# Altium footprint library ADP1755A.PcbLib: 1 footprints
Each footprint in its own frame and in the unit in brackets; x right, y up, seen from the top. Pads: shape width x height; smd on the part's side, far side on the other; paste and mask are expansions set on the pad; w line width, h text height; cw(c..) or ccw(c..) is an arc to the next point about the centre after c.
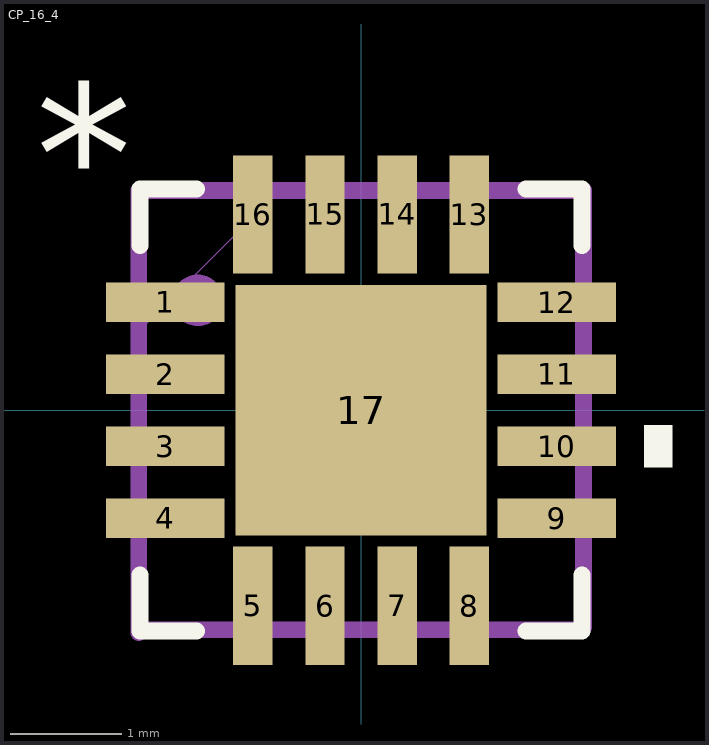
[diagram p0: the footprint, top view; thin cyan lines are the x and y axes]

## CP_16_4 [mil]
pads (17):
  rect 42x14 smd mask+4: 1(-69.5,38.39) 2(-69.5,12.8) 3(-69.5,-12.8) 4(-69.5,-38.39) 9(69.5,-38.39) 10(69.5,-12.8) 11(69.5,12.8) 12(69.5,38.39)
  rect 14x42 smd mask+4: 5(-38.39,-69.5) 6(-12.8,-69.5) 7(12.8,-69.5) 8(38.39,-69.5) 13(38.39,69.5) 14(12.8,69.5) 15(-12.8,69.5) 16(-38.39,69.5)
  rect 89x89 smd mask-44: 17(0,0)
Top Overlay:
  region: 100.5,-5.3 110.5,-5.3 110.5,-20.3 100.5,-20.3
  lines w6: -78.5,-58.49 -78.5,-78.5 -58.49,-78.5 ; -78.5,58.49 -78.5,78.5 -58.49,78.5 ; 58.49,-78.5 78.5,-78.5 78.5,-58.49 ; 58.49,78.5 78.5,78.5 78.5,58.49
  text "*" at -115.5,66.18 h50
Mechanical 1:
  lines w0: -78.5,28.5 -28.5,78.5 ; -78.5,-78.5 78.5,-78.5 78.5,78.5 -78.5,78.5 -78.5,-78.5 ; -78.5,-45.39 -78.5,-31.39 -78.5,-45.39 ; -78.5,-19.8 -78.5,-5.8 -78.5,-19.8 ; -78.5,5.8 -78.5,19.8 -78.5,5.8 ; -78.5,31.39 -78.5,45.39 -78.5,31.39 ; -45.39,-78.5 -31.39,-78.5 -45.39,-78.5 ; -45.39,78.5 -31.39,78.5 -45.39,78.5 ; -19.8,-78.5 -5.8,-78.5 -19.8,-78.5 ; -19.8,78.5 -5.8,78.5 -19.8,78.5 ; 5.8,-78.5 19.8,-78.5 5.8,-78.5 ; 5.8,78.5 19.8,78.5 5.8,78.5 ; 31.39,-78.5 45.39,-78.5 31.39,-78.5 ; 31.39,78.5 45.39,78.5 31.39,78.5 ; 78.5,-45.39 78.5,-31.39 78.5,-45.39 ; 78.5,-19.8 78.5,-5.8 78.5,-19.8 ; 78.5,5.8 78.5,19.8 78.5,5.8 ; 78.5,31.39 78.5,45.39 78.5,31.39
  text "*" at -115.5,66.18 h50
Mechanical 29:
  lines w5.91: -79,-79 -79,78 79,78 79,-77 ; -78,-78 78,-78
  lines w10: -54,38 cw(c-58,39) -53.91,39.51
  text ".Designator" at -49,-23 h40
3D body: height 31.5, standoff 0, extent -78.5,-78.5 78.5,78.5